# Altium footprint library Footprints.PcbLib: 21 footprints (part 2 of 2)
Each footprint in its own frame and in the unit in brackets; x right, y up, seen from the top. Pads: shape width x height; smd on the part's side, far side on the other; paste and mask are expansions set on the pad; w line width, h text height; cw(c..) or ccw(c..) is an arc to the next point about the centre after c.
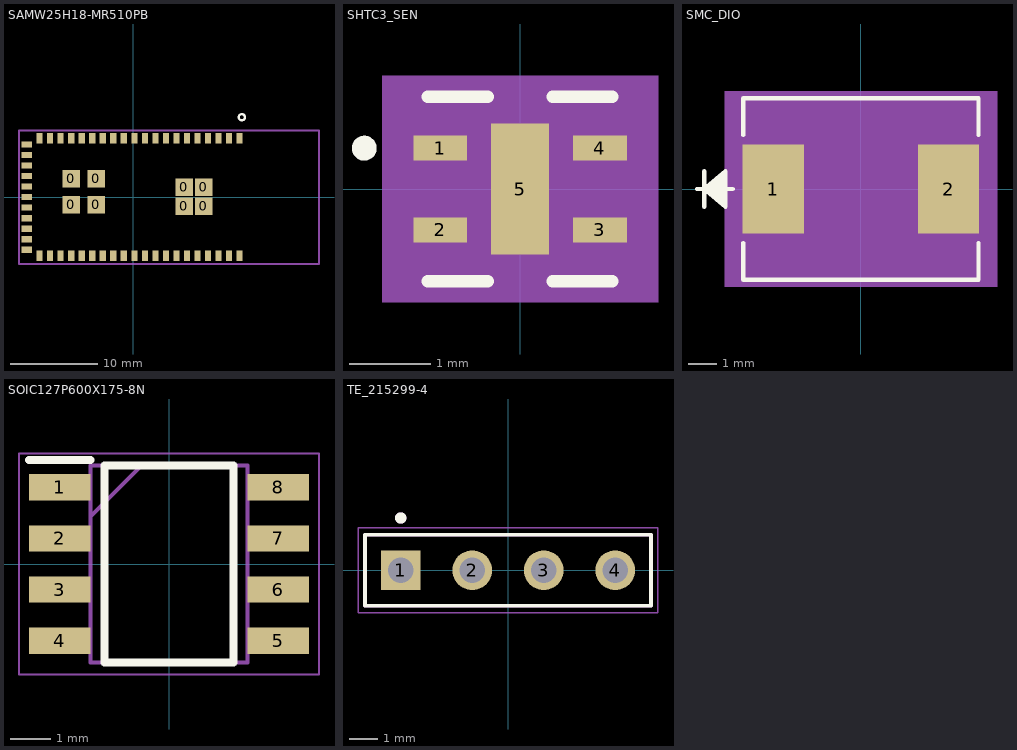
[diagram p1: the footprints below, top view; thin cyan lines are the x and y axes]

## SAMW25H18-MR510PB [mm] "RF TXRX MODULE WIFI TRACE ANT"
pads (59):
  rect 2x2 smd: 0(-7.065,-0.839) 0(-7.065,2.085) 0(-4.21,-0.839) 0(-4.21,2.085)
  rect 2x2 smd mask+0.12: 0(5.828,-1.045) 0(5.828,1.137) 0(8.046,-1.045) 0(8.046,1.137)
  rect 0.7x1.2 smd: 1(12.121,6.7) 2(10.921,6.7) 3(9.721,6.7) 4(8.521,6.7) 5(7.321,6.7) 6(6.121,6.7) 7(4.921,6.7) 8(3.721,6.7) 9(2.521,6.7) 10(1.321,6.7) 11(0.121,6.7) 12(-1.079,6.7) 13(-2.279,6.7) 14(-3.479,6.7) 15(-4.679,6.7) 16(-5.879,6.7) 17(-7.079,6.7) 18(-8.279,6.7) 19(-9.479,6.7) 20(-10.679,6.7) 32(-10.679,-6.7) 33(-9.479,-6.7) 34(-8.279,-6.7) 35(-7.079,-6.7) 36(-5.879,-6.7) 37(-4.679,-6.7) 38(-3.479,-6.7) 39(-2.279,-6.7) 40(-1.079,-6.7) 41(0.121,-6.7) 42(1.321,-6.7) 43(2.521,-6.7) 44(3.721,-6.7) 45(4.921,-6.7) 46(6.121,-6.7) 47(7.321,-6.7) 48(8.521,-6.7) 49(9.721,-6.7) 50(10.921,-6.7) 51(12.121,-6.7)
  rect 1.2x0.7 smd: 21(-12.12,6.004) 22(-12.12,4.804) 23(-12.12,3.604) 24(-12.12,2.404) 25(-12.12,1.204) 26(-12.12,0.004) 27(-12.12,-1.196) 28(-12.12,-2.396) 29(-12.12,-3.596) 30(-12.12,-4.796) 31(-12.12,-5.996)
Top Overlay:
  circle w0.254: c12.382,9.118 r0.358
Mechanical 3:
  lines w0.254: -13.031,-7.612 -13.031,7.597 21.179,7.597 21.179,-7.612 -13.031,-7.612
3D body "SAMW25.STEP": height 3.37, standoff -0.03, extent -12.885,-7.452 20.978,7.455

## SHTC3_SEN [mil]
pads (5):
  rect 26x12 smd paste+0 mask+0: 1(-38.5,19.68) 2(-38.5,-19.68) 3(38.5,-19.68) 4(38.5,19.68)
  rect 28x63 smd paste+0 mask+0: 5(0,0)
Top Overlay:
  circle w6: c-75.19,19.68 r3
  lines w6: -44.5,-44.5 -15.62,-44.5 ; -44.5,44.5 -15.62,44.5 ; 15.62,-44.5 44.5,-44.5 ; 15.62,44.5 44.5,44.5
Mechanical 5:
  region: 66.5,-54.5 -66.5,-54.5 -66.5,54.5 66.5,54.5
Mechanical 13:
  circle w6: c-25.5,19.68 r3
  lines w0: -12,39.5 ccw(c0,39.5) 12,39.5
  lines w1: -39.5,-39.5 39.5,-39.5 39.5,39.5 -39.5,39.5 -39.5,-39.5
Mechanical 15:
  region: -49.5,-35.69 -61.5,-35.69 -61.5,35.69 -49.5,35.69 -49.5,49.5 49.5,49.5 49.5,35.69 61.5,35.69 61.5,-35.69 49.5,-35.69 49.5,-49.5 -49.5,-49.5
  lines w6: -61.5,-35.69 -61.5,35.69 -49.5,35.69 -49.5,49.5 49.5,49.5 49.5,35.69 61.5,35.69 61.5,-35.69 49.5,-35.69 49.5,-49.5 -49.5,-49.5 -49.5,-35.69 -61.5,-35.69
3D body "SHTC3_SEN.step": height 30.12, standoff 0, extent -39.49,-39.49 39.49,39.49

## SMC_DIO [mm]
pads (2):
  rect 2.18x3.18 smd paste+0 mask+0: 1(-3.127,0) 2(3.127,0)
Top Overlay:
  lines w0.152: -5.843,0 -4.573,0 ; -5.589,-0.635 -5.589,0.635 ; -4.827,-0.508 -5.589,0 ; -4.827,-0.381 -5.589,0 ; -4.827,-0.254 -5.589,0 ; -4.827,-0.127 -5.589,0 ; -4.827,0.127 -5.589,0 ; -4.827,0.254 -5.589,0 ; -4.827,0.381 -5.589,0 ; -4.827,0.508 -5.589,0 ; -4.192,-1.923 -4.192,-3.237 4.192,-3.237 4.192,-1.923 ; -4.192,1.923 -4.192,3.237 4.192,3.237 4.192,1.923 ; -5.589,0 -4.827,0.635 -4.827,-0.635 -5.589,0
Mechanical 5:
  region: 4.852,-3.491 -4.852,-3.491 -4.852,3.491 4.852,3.491
Mechanical 13:
  lines w0.025: -5.843,0 -4.573,0 ; -5.589,-0.635 -5.589,0.635 ; -4.827,-0.508 -5.589,0 ; -4.827,-0.381 -5.589,0 ; -4.827,-0.254 -5.589,0 ; -4.827,-0.127 -5.589,0 ; -4.827,0.127 -5.589,0 ; -4.827,0.254 -5.589,0 ; -4.827,0.381 -5.589,0 ; -4.827,0.508 -5.589,0 ; -5.589,0 -4.827,0.635 -4.827,-0.635 -5.589,0 ; -4.065,-3.11 4.065,-3.11 4.065,3.11 -4.065,3.11 -4.065,-3.11
Mechanical 15:
  region: -4.319,-1.844 -4.471,-1.844 -4.471,1.844 -4.319,1.844 -4.319,3.364 4.319,3.364 4.319,1.844 4.471,1.844 4.471,-1.844 4.319,-1.844 4.319,-3.364 -4.319,-3.364
  lines w0.152: -4.471,-1.844 -4.471,1.844 -4.319,1.844 -4.319,3.364 4.319,3.364 4.319,1.844 4.471,1.844 4.471,-1.844 4.319,-1.844 4.319,-3.364 -4.319,-3.364 -4.319,-1.844 -4.471,-1.844
3D body "SMC_DIO.step": height 2.45, standoff 0, extent -4.065,-3.11 4.065,3.11

## SOIC127P600X175-8N [mm]
pads (8):
  rect 1.525x0.65 smd: 1(-2.712,1.905) 2(-2.712,0.635) 3(-2.712,-0.635) 4(-2.712,-1.905) 5(2.712,-1.905) 6(2.712,-0.635) 7(2.712,0.635) 8(2.712,1.905)
Top Overlay:
  lines w0.2: -3.475,2.58 -1.95,2.58 ; -1.6,-2.45 1.6,-2.45 1.6,2.45 -1.6,2.45 -1.6,-2.45
Mechanical 13:
  lines w0.1: -1.95,1.18 -0.68,2.45 ; -1.95,-2.45 1.95,-2.45 1.95,2.45 -1.95,2.45 -1.95,-2.45
Mechanical 15:
  lines w0.05: -3.725,-2.75 3.725,-2.75 3.725,2.75 -3.725,2.75 -3.725,-2.75
3D body "NE555DR.stp": height 1.75, standoff 0, extent -3,-2.45 3,2.45

## TE_215299-4 [mm]
pads (4):
  rect 1.408x1.408 hole 0.9: 1(-3.81,0)
  round 1.408 hole 0.9: 2(-1.27,0) 3(1.27,0) 4(3.81,0)
Top Overlay:
  circle w0.2: c-3.81,1.86 r0.1
  lines w0.127: -5.08,-1.26 -5.08,1.26 5.08,1.26 5.08,-1.26 -5.08,-1.26
Mechanical 13:
  circle w0.2: c-3.81,1.86 r0.1
  lines w0.127: -5.08,-1.26 -5.08,1.26 5.08,1.26 5.08,-1.26 -5.08,-1.26
Mechanical 15:
  lines w0.05: -5.33,-1.51 -5.33,1.51 5.33,1.51 5.33,-1.51 -5.33,-1.51
3D body "215299-4--3DModel-STEP-1.STEP": height 8.51, standoff -2.99, extent -5.08,-1.26 5.08,1.26